# Altium footprint library 5029.PcbLib: 1 footprints
Each footprint in its own frame and in the unit in brackets; x right, y up, seen from the top. Pads: shape width x height; smd on the part's side, far side on the other; paste and mask are expansions set on the pad; w line width, h text height; cw(c..) or ccw(c..) is an arc to the next point about the centre after c.
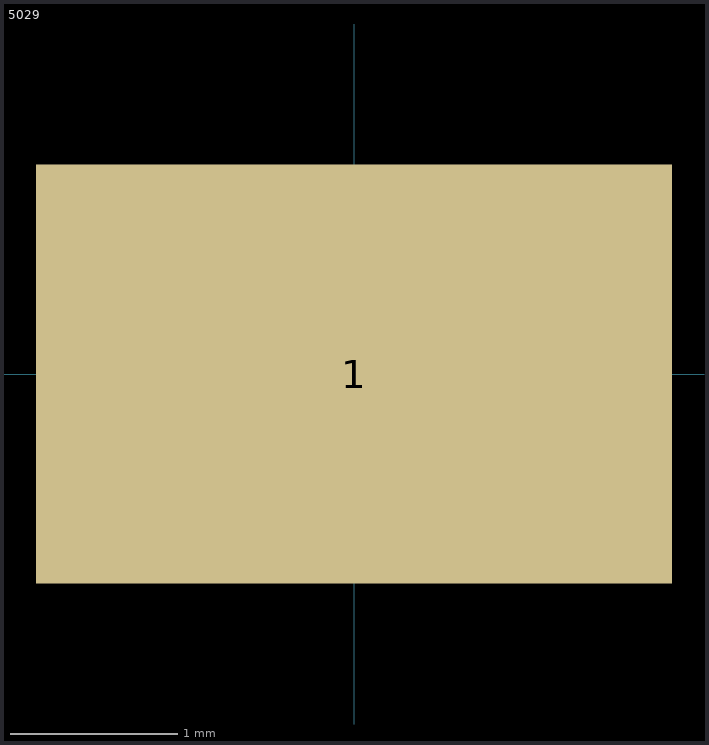
[diagram p0: the footprint, top view; thin cyan lines are the x and y axes]

## 5029 [mm]
pads (1):
  rect 3.8x2.5 smd mask+0.102: 1(0,0)
3D body "keystone-PN5029.STEP": height 2.3, standoff 0.01, extent -1.905,-1.016 1.905,1.016